# EAGLE library part TLP281 (library cTechnologies_optoElements)
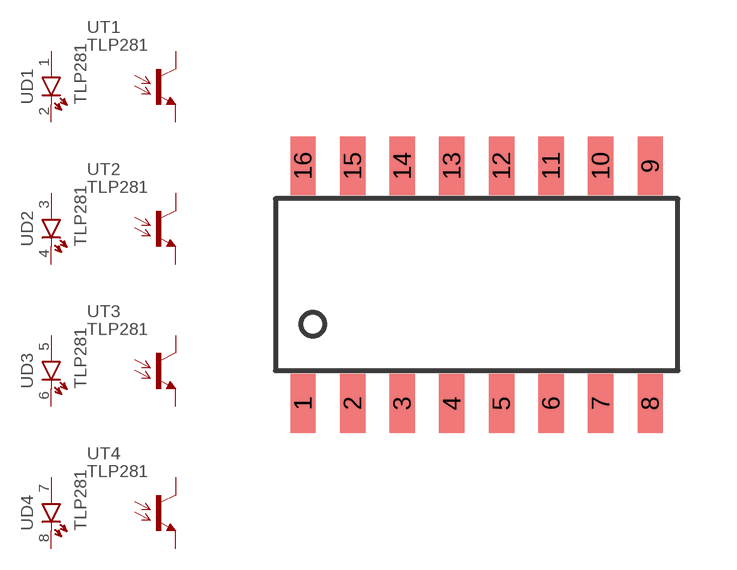
[diagram p3: symbol with the pads of TLP281-4; footprint TLP281-4]

Designator prefix -; gates D1=LED-RIGHT T1=NPN D2=LED-RIGHT T2=NPN D3=LED-RIGHT T3=NPN D4=LED-RIGHT T4=NPN

## TLP281-4  [TLP281-4]
1  D1:A
2  D1:K
3  D2:A
4  D2:K
5  D3:A
6  D3:K
7  D4:A
8  D4:K
9  T4:E  pas
10  T4:C  pas
11  T3:E  pas
12  T3:C  pas
13  T2:E  pas
14  T2:C  pas
15  T1:E  pas
16  T1:C  pas

## Footprint TLP281-4 (pad centres in mm)
smd 0.65 x 1.5: 1 -4.445,-3.04; 2 -3.175,-3.04; 3 -1.905,-3.04; 4 -0.635,-3.04; 5 0.635,-3.04; 6 1.905,-3.04; 7 3.175,-3.04; 8 4.445,-3.04; 9 4.445,3.04; 10 3.175,3.04; 11 1.905,3.04; 12 0.635,3.04; 13 -0.635,3.04; 14 -1.905,3.04; 15 -3.175,3.04; 16 -4.445,3.04